# EAGLE library part BMS_4-6 (library EL_POTENCIA_LIBRERIA_VES2018)
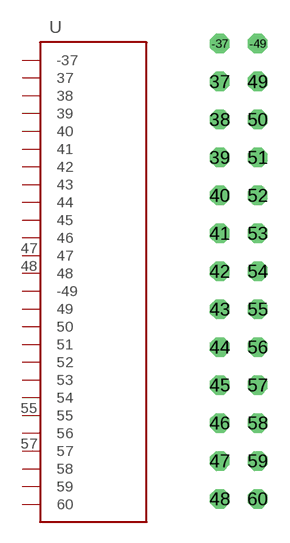
[diagram p7: symbol with the pads of BMS_4-6; footprint BMS_4-6]

Designator prefix -

## BMS_4-6  [BMS_4-6]
37  37
38  38
39  39
40  40
41  41
42  42
43  43
44  44
45  45
46  46
47  47
48  48
49  49
50  50
51  51
52  52
53  53
54  54
55  55
56  56
57  57
58  58
59  59
60  60
-37  -37
-49  -49

## Footprint BMS_4-6 (pad centres in mm)
drill 0.8 octagon: 37 -2.54,20.32; 38 -2.54,17.78; 39 -2.54,15.24; 40 -2.54,12.7; 41 -2.54,10.16; 42 -2.54,7.62; 43 -2.54,5.08; 44 -2.54,2.54; 45 -2.54,0; 46 -2.54,-2.54; 47 -2.54,-5.08; 48 -2.54,-7.62; 49 0,20.32; 50 0,17.78; 51 0,15.24; 52 0,12.7; 53 0,10.16; 54 0,7.62; 55 0,5.08; 56 0,2.54; 57 0,0; 58 0,-2.54; 59 0,-5.08; 60 0,-7.62; -37 -2.54,22.86; -49 0,22.86